# EAGLE library part LSS-110-01-F-DV-A-TR (library LSS-110-01-F-DV-A-TR)
Conn Socket and Terminal Strip SKT/HDR 20 POS 0.635mm Solder ST SMD T/R
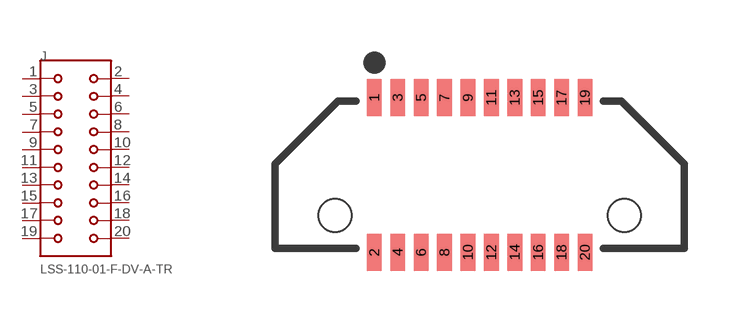
[diagram p0: symbol with the pads of SAMTEC_LSS-110-01-F-DV-A-TR; footprint SAMTEC_LSS-110-01-F-DV-A-TR]

Designator prefix J

## LSS-110-01-F-DV-A-TR (AVAILABILITY: Warning; DESCRIPTION: Conn Socket and Terminal Strip SKT/HDR 20 POS 0.635mm Solder ST SMD T/R; MF: Samtec; MP: LSS-110-01-F-DV-A-TR; PACKAGE: None; PRICE: 1.50 USD)  [SAMTEC_LSS-110-01-F-DV-A-TR]
1  1  pas
2  2  pas
3  3  pas
4  4  pas
5  5  pas
6  6  pas
7  7  pas
8  8  pas
9  9  pas
10  10  pas
11  11  pas
12  12  pas
13  13  pas
14  14  pas
15  15  pas
16  16  pas
17  17  pas
18  18  pas
19  19  pas
20  20  pas

## Footprint SAMTEC_LSS-110-01-F-DV-A-TR (pad centres in mm)
smd 0.4 x 1: 1 -2.857,2.1; 2 -2.857,-2.1; 3 -2.223,2.1; 4 -2.223,-2.1; 5 -1.587,2.1; 6 -1.587,-2.1; 7 -0.953,2.1; 8 -0.953,-2.1; 9 -0.318,2.1; 10 -0.318,-2.1; 11 0.318,2.1; 12 0.318,-2.1; 13 0.953,2.1; 14 0.953,-2.1; 15 1.587,2.1; 16 1.587,-2.1; 17 2.223,2.1; 18 2.223,-2.1; 19 2.857,2.1; 20 2.857,-2.1
hole 0.89 at 3.925,-1.1
hole 0.89 at -3.925,-1.1